# Altium schematic symbol library Sensor Package.SchLib: 36 symbols
Pins are listed as number, name and electrical type; pins without a type are passive.

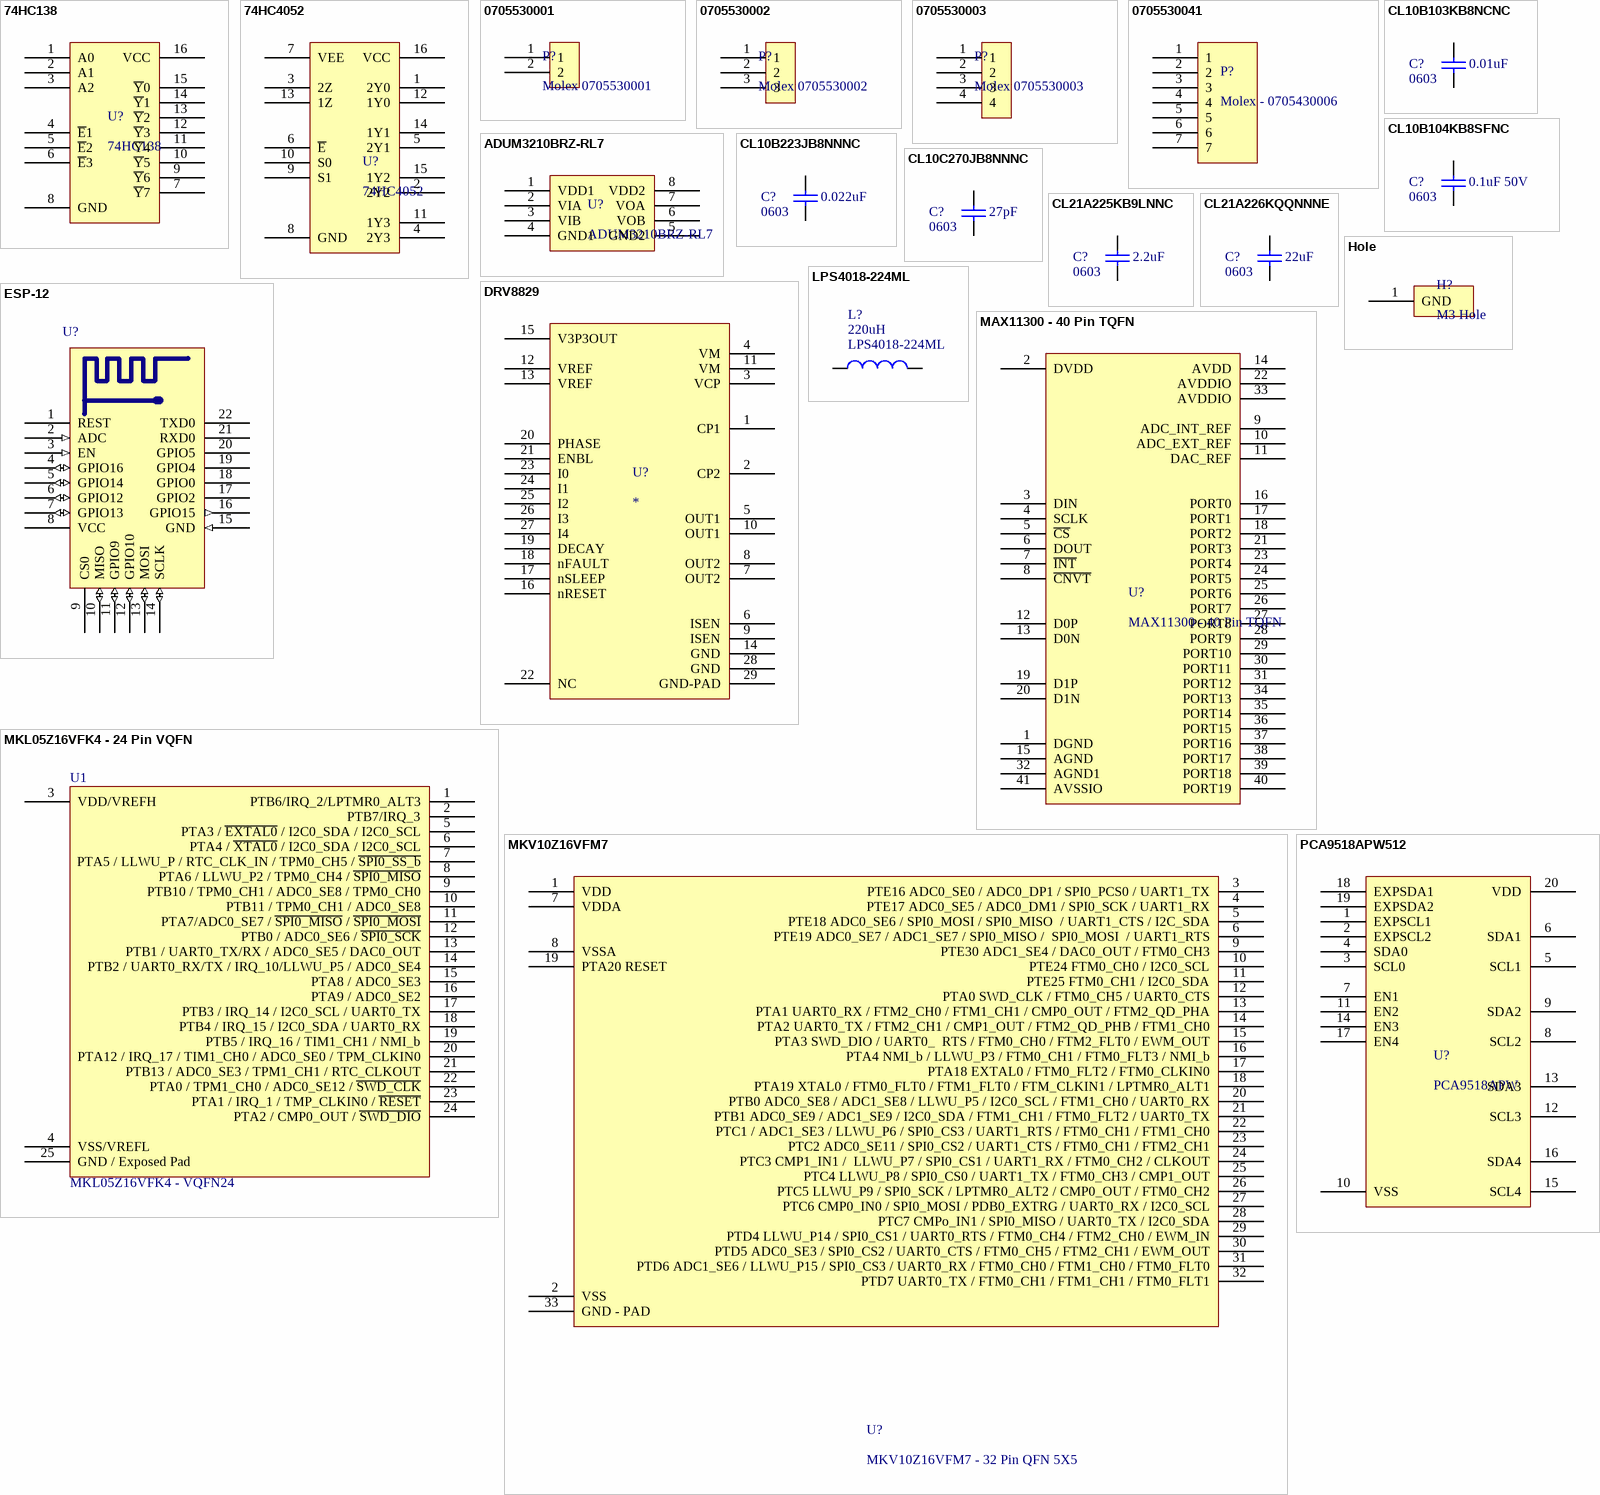
[diagram p0: symbols 74HC138 to PCA9518APW512]

## 74HC138
designator U?
3-to-8 line decoder/demultiplexer; inverting
footprint 74HC138 (SOIC, 16-Leads, Body 9.90x3.90mm, Pitch 1.27mm, IPC Medium Density)
pins: 1 A0, 2 A1, 3 A2, 4 ~{E}1, 5 ~{E}2, 6 ~{E}3, 7 ~{Y}7, 8 GND, 9 ~{Y}6, 10 ~{Y}5, 11 ~{Y}4, 12 ~{Y}3, 13 ~{Y}2, 14 ~{Y}1, 15 ~{Y}0, 16 VCC

## 74HC4052
designator U?
Dual 4-channel analog multiplexer/demultiplexer; MFR: NXP; Mouting Type: SMT; MFR#: 74HC4052; Type: 74 logic, analog mulitplexer/demultiplexer; Datasheet: http://www.nxp.com/documents/data_sheet/74HC_HCT4052.pdf
footprint 74HC4052 (SOIC, 16-Leads, Body 9.90x3.90mm, Pitch 1.27mm, IPC Medium Density)
pins: 1 2Y0, 2 2Y2, 3 2Z, 4 2Y3, 5 2Y1, 6 ~{E}, 7 VEE, 8 GND, 9 S1, 10 S0, 11 1Y3, 12 1Y0, 13 1Z, 14 1Y1, 15 1Y2, 16 VCC

## 0705530001
designator P?, comment Molex 0705530001
Molex 0705530002 Right Angle 2.54mm Shrouded Header; MFR: Molex; MFR#: 0705530001; Type: 2.54mm shrouded 2 pin right angle throughhole connector; Digikey #: WM4900-ND
footprint 0705530001
pins: 1, 2

## 0705530002
designator P?, comment Molex 0705530002
Molex 0705530002 Right Angle 2.54mm Shrouded Header; MFR: Molex; MFR#: 0705530002; Type: 2.54mm shrouded 3 pin right angle throughhole connector; Digikey #: WM4901-ND
footprint 0705530002
pins: 1, 2, 3

## 0705530003
designator P?, comment Molex 0705530003
Molex 0705530003 Right Angle 2.54mm Shrouded Header; MFR: Molex; MFR#: 0705530003; Type: 2.54mm shrouded 4 pin right angle throughhole connector; Digikey #: WM4902-ND
footprint 0705530003 (Molex 2.54mm 0705530003)
pins: 1, 2, 3, 4

## 0705530041
designator P?, comment Molex - 0705430006
0705530041; MFR: Molex; MFR#: 0705530041
footprint 0705530041 (Molex - 0705530041)
pins: 1, 2, 3, 4, 5, 6, 7

## ADUM3210BRZ-RL7
designator U?
DGTL ISO 2.5KV GEN PURP 8SOIC; MFR: Analog Devices; RHoS?: yes; MFR#: ADUM3210BRZ-RL7; Digikey #: ADUM3210BRZ-RL7CT-ND; Type: 8 pin SOIC; Revision Date: April 2015
footprint ADUM3210BRZ-RL7 (SOIC, 8-Leads, Body 4.90x3.90mm, Pitch 1.27mm, IPC Medium Density)
pins: 1 VDD1, 2 VIA, 3 VIB, 4 GND1, 5 GND2, 6 VOB, 7 VOA, 8 VDD2

## CL10B103KB8NCNC
designator C?, comment 0603  value 0.01uF
CAP CER 10000PF 50V 10% X7R 0603; MFR Part #: CL10B103KB8NCNC; MFR: Samsung; Voltage: 50VDC; Published: 10 - Dec - 2014; LatestRevisionDate: April 2015; Component Type: Chip Capacitor; Part Description: CAP CER 10000PF 50V 10% X7R 0603; Mounting Type: SMT 0603; Datasheet: http://www.samsungsem.com/kr/front/downloadcms.do?path=/kr/support/product-search/mlcc/__icsFiles/afieldfile/2014/11/05&fileName=S_CL10B103KB8NCNC.pdf; Height: 0.9mm; Tolerance: 10%; Digikey #: 1276-1921-1-ND; PackageReference: 0603
simulation model CAP (Semiconductor Capacitor)
signal-integrity model Cap Semi
footprint C0603
pins: 1, 2

## CL10B104KB8SFNC
designator C?, comment 0603  value 0.1uF 50V
CAP CER 0.1UF 50V 10% X7R 0603; MFR Part #: CL10B104KB8SFNC; MFR: Samsung; Voltage: 50VDC; Published: 10 - Dec - 2014; LatestRevisionDate: April 2015; Component Type: Chip Capacitor; Part Description: CAP CER 0.1UF 50V 10% X7R 0603; Mounting Type: SMT 0603; Datasheet: http://www.samsungsem.com/kr/front/downloadcms.do?path=/kr/support/product-search/mlcc/__icsFiles/afieldfile/2014/11/05&fileName=S_CL10B104KB8SFNC.pdf; Height: 0.9mm; Tolerance: 10%; Digikey #: 1276-1936-1-ND; PackageReference: 0603
simulation model CAP (Semiconductor Capacitor)
signal-integrity model Cap Semi
footprint C0603
pins: 1, 2

## CL10B223JB8NNNC
designator C?, comment 0603  value 0.022uF
CAP CER 0.022UF 50V 5% X7R 0603; MFR Part #: CL10B223JB8NNNC; MFR: Samsung; Tolerance: 10%; Voltage: 50VDC; Published: 10 - Dec - 2014; LatestRevisionDate: April 2015; Component Type: Chip Capacitor; Part Description: CAP CER 0.022UF 50V 5% X7R 0603; Mounting Type: SMT 0603; Datasheet: http://www.samsungsem.com/kr/front/downloadcms.do?path=/kr/support/product-search/mlcc/__icsFiles/afieldfile/2014/11/05&fileName=S_CL10B223JB8NNNC.pdf; Height: 0.9mm; Digikey #: 1276-1996-1-ND; PackageReference: 0603
simulation model CAP (Semiconductor Capacitor)
signal-integrity model Cap Semi
footprint C0603
pins: 1, 2

## CL10C270JB8NNNC
designator C?, comment 0603  value 27pF
CAP CER 27PF 50V 5% NP0 0603; MFR Part #: CL10C270JB8NNNC; MFR: Samsung; Voltage: 50VDC; Published: 10 - Dec - 2014; LatestRevisionDate: April 2015; Component Type: Chip Capacitor; Part Description: CAP CER 27PF 50V 5% NP0 0603; Mounting Type: SMT 0603; Datasheet: http://www.samsungsem.com/kr/front/downloadcms.do?path=/kr/support/product-search/mlcc/__icsFiles/afieldfile/2014/11/05&fileName=S_CL10C270JB8NNNC.pdf; Height: 0.9mm; Tolerance: 5%; Digikey #: 1276-1921-1-ND; PackageReference: 0603
simulation model CAP (Semiconductor Capacitor)
signal-integrity model Cap Semi
footprint C0603
pins: 1, 2

## CL21A225KB9LNNC
designator C?, comment 0603  value 2.2uF
CAP CER 2.2UF 50V 10% X5R 0805; MFR Part #: CL21A225KB9LNNC; MFR: Samsung; Voltage: 50VDC; Published: 10 - Dec - 2014; LatestRevisionDate: April 2015; Component Type: Chip Capacitor; Part Description: CAP CER 2.2UF 50V 10% X5R 0805; Mounting Type: SMT 0805; Datasheet: http://www.samsungsem.com/kr/front/downloadcms.do?path=/kr/support/product-search/mlcc/__icsFiles/afieldfile/2014/11/05&fileName=S_CL21A225KB9LNNC.pdf; Height: 1mm; Tolerance: 10%; Digikey #: 1276-2409-1-ND; PackageReference: 0805
simulation model CAP (Semiconductor Capacitor)
signal-integrity model Cap Semi
footprint C0805
pins: 1, 2

## CL21A226KQQNNNE
designator C?, comment 0603  value 22uF
CAP CER 22UF 6.3V 10% X5R 0805; MFR Part #: CL21A226KQQNNNE; MFR: Samsung; Voltage: 6.3VDC; Published: April 2015; LatestRevisionDate: April 2015; Component Type: Chip Capacitor; Part Description: CAP CER 22UF 6.3V 10% X5R 0805; Mounting Type: SMT 0805; Datasheet: http://www.digikey.com/product-detail/en/CL21A226KQQNNNE/1276-2907-2-ND/3888565; Height: 1mm; Tolerance: 10%; Digikey #: 1276-2907-2-ND; PackageReference: 0805
simulation model CAP (Semiconductor Capacitor)
signal-integrity model Cap Semi
footprint C0805
pins: 1, 2

## DRV8829
designator U?
IC MOTOR DRIVER PAR 28HTSSOP; MFR: Texas Instruments; MFR #: DRV8829PWPR; RHos: Yes; Datasheet: https://www.ti.com/lit/ds/symlink/drv8829.pdf; Digikey #: 296-28829-1-ND
footprint TSSOP28-DRV8829 (TSOP, 28-Leads, Body 9.70x4.40mm, Pitch 0.65mm, Thermal Pad 5.22x3.10mm, IPC Medium Density)
pins: 1 CP1, 2 CP2, 3 VCP, 4 VM, 5 OUT1, 6 ISEN, 7 OUT2, 8 OUT2, 9 ISEN, 10 OUT1, 11 VM, 12 VREF, 13 VREF, 14 GND, 15 V3P3OUT, 16 nRESET, 17 nSLEEP, 18 nFAULT, 19 DECAY, 20 PHASE, 21 ENBL, 22 NC, 23 I0, 24 I1, 25 I2, 26 I3, 27 I4, 28 GND, 29 GND-PAD

## ESP-12
designator U?, comment ESP-12E  (value not drawn)
Sketchy Chinese ESP8266 Board with Fake FCC Bullshit
footprint ESP8266 ESP-12E
pins: 1 REST, 2 ADC (in), 3 EN (in), 4 GPIO16 (io), 5 GPIO14 (io), 6 GPIO12 (io), 7 GPIO13 (io), 8 VCC (power), 9 CS0 (power), 10 MISO (io), 11 GPIO9 (io), 12 GPIO10 (io), 13 MOSI (io), 14 SCLK (io), 15 GND (in), 16 GPIO15 (out), 17 GPIO2, 18 GPIO0, 19 GPIO4, 20 GPIO5, 21 RXD0, 22 TXD0

## Hole
designator H?, comment M3 Hole
3mm Hole
footprint Hole-3mm
pins: 1 GND

## LPS4018-224ML
designator L?  value 220uH
Inductor; MFR: Coilcraft; Published: 8-Jun-2000; LatestRevisionDate: April 2015; PackageReference: Coilcraft Custom; Publisher: Altium Limited; PackageDescription: Custom Wound SMD Inductor; MFR#: LPS4018-224ML; Height: 1.7mm
simulation model INDUCTOR (Inductor)
signal-integrity model Inductor
footprint LPS4018-224ML (Precision Wire Wound Inductor, 2-Leads, Body 4.40x3.90mm, IPC Medium Density)
pins: 1, 2

## MAX11300 - 40 Pin TQFN
designator U?
MAX11300
footprint Maxim T4066+3 40 pin TQFN (QFN, 40-Leads, Body 6.00x6.00mm, Pitch 0.50mm, Thermal Pad 4.10x4.10mm, IPC Medium Density)
footprint MAXIM C48E+8 48 Pin TQFP (TSQFP, 48-Leads, Body 7.00x7.00mm, Pitch 0.50mm, Thermal Pad 5.30x5.30mm, IPC Medium Density)
pins: 1 DGND, 2 DVDD, 3 DIN, 4 SCLK, 5 ~{CS}, 6 DOUT, 7 ~{INT}, 8 ~{CNVT}, 9 ADC_INT_REF, 10 ADC_EXT_REF, 11 DAC_REF, 12 D0P, 13 D0N, 14 AVDD, 15 AGND, 16 PORT0, 17 PORT1, 18 PORT2, 19 D1P, 20 D1N, 21 PORT3, 22 AVDDIO, 23 PORT4, 24 PORT5, 25 PORT6, 26 PORT7, 27 PORT8, 28 PORT9, 29 PORT10, 30 PORT11, 31 PORT12, 32 AGND1, 33 AVDDIO, 34 PORT13, 35 PORT14, 36 PORT15, 37 PORT16, 38 PORT17, 39 PORT18, 40 PORT19, 41 AVSSIO

## MKL05Z16VFK4 - 24 Pin VQFN
designator U1, comment MKL05Z16VFK4 - VQFN24
ARM Cortex M0+
footprint 98ASA00474D (QFN, 24-Leads, Body 3.98x3.98mm, Pitch 0.50mm, Thermal Pad 2.80x2.80mm, IPC Medium Density)
pins: 1 PTB6/IRQ_2/LPTMR0_ALT3, 2 PTB7/IRQ_3, 3 VDD/VREFH, 4 VSS/VREFL, 5 PTA3 / ~{EXTAL0} / I2C0_SDA / I2C0_SCL, 6 PTA4 / ~{XTAL0} / I2C0_SDA / I2C0_SCL, 7 PTA5 / LLWU_P / RTC_CLK_IN / TPM0_CH5 / ~{SPI0_SS_b}, 8 PTA6 / LLWU_P2 / TPM0_CH4 / ~{SPI0_MISO}, 9 PTB10 / TPM0_CH1 / ADC0_SE8 / TPM0_CH0, 10 PTB11 / TPM0_CH1 / ADC0_SE8, 11 PTA7/ADC0_SE7 / ~{SPI0_MISO} / ~{SPI0_MOSI}, 12 PTB0 / ADC0_SE6 / ~{SPI0_SCK}, 13 PTB1 / UART0_TX/RX / ADC0_SE5 / DAC0_OUT, 14 PTB2 / UART0_RX/TX / IRQ_10/LLWU_P5 / ADC0_SE4, 15 PTA8 / ADC0_SE3, 16 PTA9 / ADC0_SE2, 17 PTB3 / IRQ_14 / I2C0_SCL / UART0_TX, 18 PTB4 / IRQ_15 / I2C0_SDA / UART0_RX, 19 PTB5 / IRQ_16 / TIM1_CH1 / NMI_b, 20 PTA12 / IRQ_17 / TIM1_CH0 / ADC0_SE0 / TPM_CLKIN0, 21 PTB13 / ADC0_SE3 / TPM1_CH1 / RTC_CLKOUT, 22 PTA0 / TPM1_CH0 / ADC0_SE12 / ~{SWD_CLK}, 23 PTA1 / IRQ_1 / TMP_CLKIN0 / ~{RESET}, 24 PTA2 / CMP0_OUT / ~{SWD_DIO}, 25 GND / Exposed Pad

## MKV10Z16VFM7
designator U?, comment MKV10Z16VFM7 - 32 Pin QFN 5X5
IC MCU ARM Cortex M0+ 16KB 32QFN 75MHZ; MFR: FreeScale; MFR#: MKV10Z16VFM7; height: 1mm; Price: $2.50
footprint MKV10Z16VFM7 (QFN, 32-Leads, Body 5.00x5.00mm, Pitch 0.50mm, Thermal Pad 3.60x3.60mm, IPC Medium Density)
pins: 1 VDD, 2 VSS, 3 PTE16 ADC0_SE0 / ADC0_DP1 / SPI0_PCS0 / UART1_TX, 4 PTE17 ADC0_SE5 / ADC0_DM1 / SPI0_SCK / UART1_RX, 5 PTE18 ADC0_SE6 / SPI0_MOSI / SPI0_MISO  / UART1_CTS / I2C_SDA, 6 PTE19 ADC0_SE7 / ADC1_SE7 / SPI0_MISO /  SPI0_MOSI  / UART1_RTS, 7 VDDA, 8 VSSA, 9 PTE30 ADC1_SE4 / DAC0_OUT / FTM0_CH3, 10 PTE24 FTM0_CH0 / I2C0_SCL, 11 PTE25 FTM0_CH1 / I2C0_SDA, 12 PTA0 SWD_CLK / FTM0_CH5 / UART0_CTS, 13 PTA1 UART0_RX / FTM2_CH0 / FTM1_CH1 / CMP0_OUT / FTM2_QD_PHA, 14 PTA2 UART0_TX / FTM2_CH1 / CMP1_OUT / FTM2_QD_PHB / FTM1_CH0, 15 PTA3 SWD_DIO / UART0_  RTS / FTM0_CH0 / FTM2_FLT0 / EWM_OUT, 16 PTA4 NMI_b / LLWU_P3 / FTM0_CH1 / FTM0_FLT3 / NMI_b, 17 PTA18 EXTAL0 / FTM0_FLT2 / FTM0_CLKIN0, 18 PTA19 XTAL0 / FTM0_FLT0 / FTM1_FLT0 / FTM_CLKIN1 / LPTMR0_ALT1, 19 PTA20 RESET, 20 PTB0 ADC0_SE8 / ADC1_SE8 / LLWU_P5 / I2C0_SCL / FTM1_CH0 / UART0_RX, 21 PTB1 ADC0_SE9 / ADC1_SE9 / I2C0_SDA / FTM1_CH1 / FTM0_FLT2 / UART0_TX, 22 PTC1 / ADC1_SE3 / LLWU_P6 / SPI0_CS3 / UART1_RTS / FTM0_CH1 / FTM1_CH0, 23 PTC2 ADC0_SE11 / SPI0_CS2 / UART1_CTS / FTM0_CH1 / FTM2_CH1, 24 PTC3 CMP1_IN1 /  LLWU_P7 / SPI0_CS1 / UART1_RX / FTM0_CH2 / CLKOUT, 25 PTC4 LLWU_P8 / SPI0_CS0 / UART1_TX / FTM0_CH3 / CMP1_OUT, 26 PTC5 LLWU_P9 / SPI0_SCK / LPTMR0_ALT2 / CMP0_OUT / FTM0_CH2, 27 PTC6 CMP0_IN0 / SPI0_MOSI / PDB0_EXTRG / UART0_RX / I2C0_SCL, 28 PTC7 CMPo_IN1 / SPI0_MISO / UART0_TX / I2C0_SDA, 29 PTD4 LLWU_P14 / SPI0_CS1 / UART0_RTS / FTM0_CH4 / FTM2_CH0 / EWM_IN, 30 PTD5 ADC0_SE3 / SPI0_CS2 / UART0_CTS / FTM0_CH5 / FTM2_CH1 / EWM_OUT, 31 PTD6 ADC1_SE6 / LLWU_P15 / SPI0_CS3 / UART0_RX / FTM0_CH0 / FTM1_CH0 / FTM0_FLT0, 32 PTD7 UART0_TX / FTM0_CH1 / FTM1_CH1 / FTM0_FLT1, 33 GND - PAD

## PCA9518APW512
designator U?, comment PCA9518APW
IC I2C HUB 5CH EXPANDBL 20-TSSOP; MFR: NXP; MFR#: PCA9518APW,512; Type: I2C Hub SOIC8; Date Added: April 2015; Digikey#: 568-4245-5-ND
footprint PCA9518APW,512 (SOIC, 20-Leads, Body 12.80x7.50mm, Pitch 1.27mm, IPC Medium Density)
pins: 1 EXPSCL1, 2 EXPSCL2, 3 SCL0, 4 SDA0, 5 SCL1, 6 SDA1, 7 EN1, 8 SCL2, 9 SDA2, 10 VSS, 11 EN2, 12 SCL3, 13 SDA3, 14 EN3, 15 SCL4, 16 SDA4, 17 EN4, 18 EXPSDA1, 19 EXPSDA2, 20 VDD

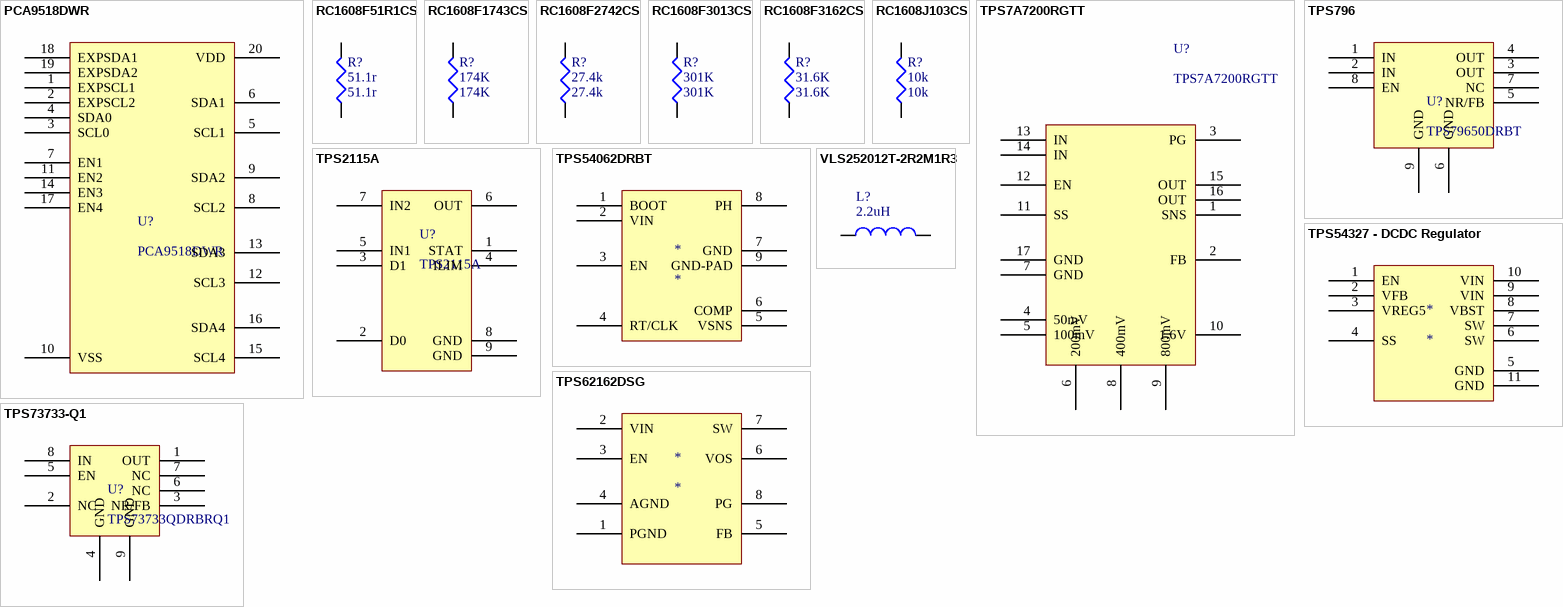
[diagram p1: symbols PCA9518DWR to VLS252012T-2R2M1R3]

## PCA9518DWR
designator U?
IC EXPANDABLE 5CH I2C HUB 20SOIC; MFR: Ti; MFR#: PCA9518DWR; Type: I2C Hub 20 Pin SOIC; Date Added: April 2015; Digikey#: 296-22766-1-ND
footprint PCA9518DWR (SOP, 20-Leads, Body 8.65x3.90mm, Pitch 0.64mm, Thermal Pad 5.22x3.10mm, IPC Medium Density)
pins: 1 EXPSCL1, 2 EXPSCL2, 3 SCL0, 4 SDA0, 5 SCL1, 6 SDA1, 7 EN1, 8 SCL2, 9 SDA2, 10 VSS, 11 EN2, 12 SCL3, 13 SDA3, 14 EN3, 15 SCL4, 16 SDA4, 17 EN4, 18 EXPSDA1, 19 EXPSDA2, 20 VDD

## RC1608F51R1CS
designator R?, comment 51.1r
RES SMD 51.1 OHM 1% 1/10W 0603; MFR: Samsung; MFR #: RC1608F51R1CS; PackageReference: 0603; Digikey #: 1276-4543-1-ND; PDF: http://www.samsungsem.com/global/support/library/product-catalog/__icsFiles/afieldfile/2015/01/12/CHIP_RESISTOR_150112_1.pdf; Value: 51.1r
simulation model RESISTOR (Resistor)
signal-integrity model Res
footprint R0603
pins: 1, 2

## RC1608F1743CS
designator R?, comment 174K
RES SMD 174K OHM 1% 1/10W 0603; MFR: Samsung; MFR #: RC1608F1743CS; PackageReference: 0603; Digikey #: 1276-4857-1-ND; PDF: http://www.samsungsem.com/global/support/library/product-catalog/__icsFiles/afieldfile/2015/01/12/CHIP_RESISTOR_150112_1.pdf; Value: 174K
simulation model RESISTOR (Resistor)
signal-integrity model Res
footprint R0603
pins: 1, 2

## RC1608F2742CS
designator R?, comment 27.4k
RES SMD 27.4K OHM 1% 1/10W 0603; MFR: Samsung; MFR #: RC1608F2742CS; PackageReference: 0603; Digikey #: 1276-4782-1-ND; PDF: http://www.samsungsem.com/global/support/library/product-catalog/__icsFiles/afieldfile/2015/01/12/CHIP_RESISTOR_150112_1.pdf; Value: 27.4k
simulation model RESISTOR (Resistor)
signal-integrity model Res
footprint R0603
pins: 1, 2

## RC1608F3013CS
designator R?, comment 301K
RES SMD 301K OHM 1% 1/10W 0603; MFR: Samsung; MFR #: RC1608F3013CS; PackageReference: 0603; Digikey #: 1276-4881-1-ND; PDF: http://www.samsungsem.com/global/support/library/product-catalog/__icsFiles/afieldfile/2015/01/12/CHIP_RESISTOR_150112_1.pdf; Value: 301K
simulation model RESISTOR (Resistor)
signal-integrity model Res
footprint R0603
pins: 1, 2

## RC1608F3162CS
designator R?, comment 31.6K
RES SMD 31.6K OHM 1% 1/10W 0603; MFR: Samsung; MFR #: RC1608F3162CS; PackageReference: 0603; Digikey #: 1276-4788-1-ND; PDF: http://www.samsungsem.com/global/support/library/product-catalog/__icsFiles/afieldfile/2015/01/12/CHIP_RESISTOR_150112_1.pdf; Value: 31.6K
simulation model RESISTOR (Resistor)
signal-integrity model Res
footprint R0603
pins: 1, 2

## RC1608J103CS
designator R?, comment 10k
RES SMD 10K OHM 5% 1/10W 0603; MFR: Samsung; MFR #: RC1608J103CS; PackageReference: 0603; Digikey #: 1276-5086-1-ND; PDF: http://www.samsungsem.com/global/support/library/product-catalog/__icsFiles/afieldfile/2015/01/12/CHIP_RESISTOR_150112_1.pdf; Value: 10k
simulation model RESISTOR (Resistor)
signal-integrity model Res
footprint R0603
pins: 1, 2

## TPS7A7200RGTT
designator U?
footprint QFN50P300X300X100_HS-17N (QFN, 16-Leads, Body 3.00x3.00mm, Pitch 0.50mm, Thermal Pad 1.70x1.70mm, IPC Medium Density)
pins: 1 SNS, 2 FB, 3 PG, 4 50mV, 5 100mV, 6 200mV, 7 GND, 8 400mV, 9 800mV, 10 1.6V, 11 SS, 12 EN, 13 IN, 14 IN, 15 OUT, 16 OUT, 17 GND

## TPS796
designator U?, comment TPS79650DRBT
footprint QFN65P300X300X100_HS-17N (QFN, 16-Leads, Body 3.00x3.00mm, Pitch 0.65mm, Thermal Pad 2.40x1.65mm, IPC Medium Density)
pins: 1 IN, 2 IN, 3 OUT, 4 OUT, 5 NR/FB, 6 GND, 7 NC, 8 EN, 9 GND

## TPS2115A
designator U?
footprint DRB S-PVSON-N8 (QFN, 16-Leads, Body 3.00x3.00mm, Pitch 0.65mm, Thermal Pad 2.40x1.65mm, IPC Medium Density)
pins: 1 STAT, 2 D0, 3 D1, 4 ILIM, 5 IN1, 6 OUT, 7 IN2, 8 GND, 9 GND

## TPS54062DRBT
designator *
IC REG BUCK SYNC ADJ 50MA DRBT; MFR#: TPS54062DRBT; MFR: Texas Instruments; Type: DCDC Switching Step Down Regulator IC
footprint QFN65P300X300X100_HS-17N (QFN, 16-Leads, Body 3.00x3.00mm, Pitch 0.65mm, Thermal Pad 1.65x2.40mm, IPC Medium Density)
pins: 1 BOOT, 2 VIN, 3 EN, 4 RT/CLK, 5 VSNS, 6 COMP, 7 GND, 8 PH, 9 GND-PAD

## TPS54327 - DCDC Regulator
designator *
footprint TPS54327 (QFN, 18-Leads, Body 3.00x3.00mm, Pitch 0.50mm, Thermal Pad 2.40x1.65mm, IPC Medium Density)
pins: 1 EN, 2 VFB, 3 VREG5, 4 SS, 5 GND, 6 SW, 7 SW, 8 VBST, 9 VIN, 10 VIN, 11 GND

## TPS62162DSG
designator *
footprint TPS62162DSG (QFN, 16-Leads, Body 2.00x2.00mm, Pitch 0.50mm, Thermal Pad 0.90x1.60mm, IPC Medium Density)
pins: 1 PGND, 2 VIN, 3 EN, 4 AGND, 5 FB, 6 VOS, 7 SW, 8 PG

## TPS73733-Q1
designator U?, comment TPS73733QDRBRQ1
footprint QFN65P300X300X100_HS-17N - smaller pad (QFN, 16-Leads, Body 3.00x3.00mm, Pitch 0.65mm, Thermal Pad 1.75x1.50mm, IPC Medium Density)
pins: 1 OUT, 2 NC, 3 NR/FB, 4 GND, 5 EN, 6 NC, 7 NC, 8 IN, 9 GND

## VLS252012T-2R2M1R3
designator L?  value 2.2uH  (hidden comment: VLS252012T-2R2M1R3)
MFR: TDK Corporation; Published: April 2015; LatestRevisionDate: April 2015; LatestRevisionNote: IPC-7351 Footprint Added.; PackageReference: Custom Wound INductor; Publisher: Adam Vadala-Roth; PackageDescription: Wire Wound Inductor Package; MFR#: VLS252012T-2R2M1R3
signal-integrity model Inductor
pins: 1, 2